# Altium integrated library SS54B.IntLib: 1 symbol
Pins are listed as number, name and electrical type; pins without a type are passive.

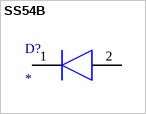
[diagram p0: symbol SS54B]

## SS54B
designator D?
Diode; Manufacturer_Name: HY Electronic Corp; Manufacturer_Part_Number: SS54B; Description: HY Electronic Corp SS54B; Datasheet Link: http://docs-emea.rs-online.com/webdocs/14bb/0900766b814bbf92.pdf; Height: 2.44mm; RS Part Number: 9179228P; RS Price/Stock: http://uk.rs-online.com/web/p/products/9179228P
footprint DIOM5336X244N
pins: 1 K, 2 A